# EAGLE library part TEA2025B (library ST_Microelctronics_By_element14_Batch_1)
STREO AUDIO AMPLIFIER
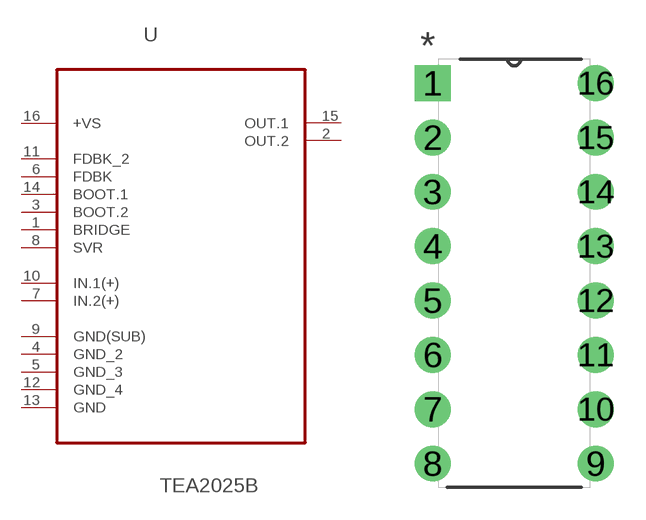
[diagram p391: symbol with the pads of DIP254P762X510-16; footprint DIP254P762X510-16]

Designator prefix U

## TEA2025B (MPN: TEA2025B; OC_FARNELL: 1263004; OC_NEWARK: 89K1062; PACKAGE: PDIP-16; SUPPLIER: STMICROELECTRONICS)  [DIP254P762X510-16]
1  BRIDGE  pas
2  OUT.2  out
3  BOOT.2  pas
4  GND_2  pas
5  GND_3  pas
6  FDBK  in
7  IN.2(+)  in
8  SVR  pas
9  GND(SUB)  pas
10  IN.1(+)  in
11  FDBK_2  in
12  GND_4  pas
13  GND  pas
14  BOOT.1  pas
15  OUT.1  out
16  +VS  pwr

## Footprint DIP254P762X510-16 (pad centres in mm)
drill 1.118 square: 1 -7.62,17.78
drill 1.118: 2 -7.62,15.24; 3 -7.62,12.7; 4 -7.62,10.16; 5 -7.62,7.62; 6 -7.62,5.08; 7 -7.62,2.54; 8 -7.62,0; 9 0,0; 10 0,2.54; 11 0,5.08; 12 0,7.62; 13 0,10.16; 14 0,12.7; 15 0,15.24; 16 0,17.78